# EAGLE library part 7SEG-CA (library jason-test)
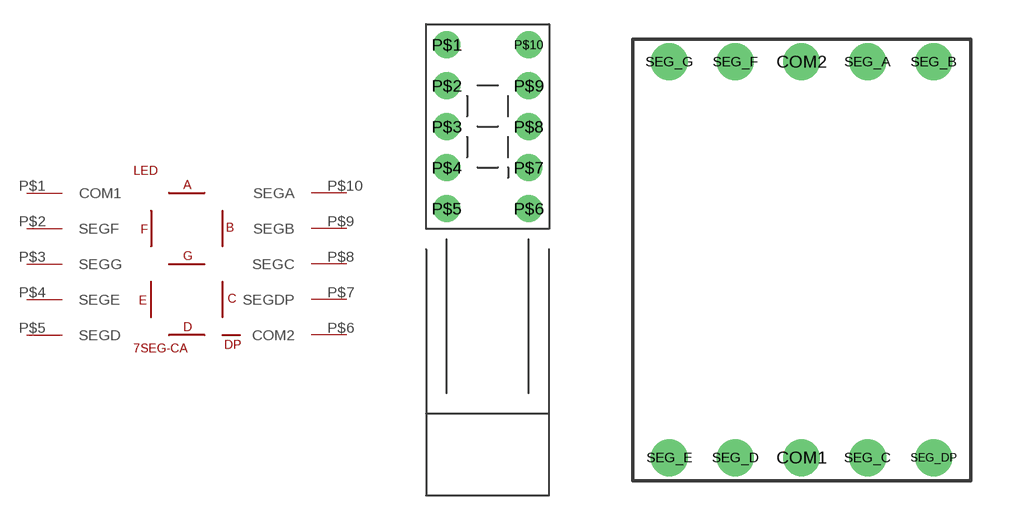
[diagram p17: symbol with the pads of 7SEG0.3IN; footprints 7SEG0.3IN, 7SEG-HSDP-5XXX]

Designator prefix LED

## 7SEG-CAR/A  [7SEG0.3IN]
P$1  COM1
P$2  SEGF
P$3  SEGG
P$4  SEGE
P$5  SEGD
P$6  COM2
P$7  SEGDP
P$8  SEGC
P$9  SEGB
P$10  SEGA

## 7SEG-CATH  [7SEG-HSDP-5XXX]
COM1  COM1
COM2  COM2
SEG_A  SEGA
SEG_B  SEGB
SEG_C  SEGC
SEG_D  SEGD
SEG_DP  SEGDP
SEG_E  SEGE
SEG_F  SEGF
SEG_G  SEGG

## 7SEG-CASMT-WRAP  [7SEG-HDSP-5XXX-SMT]
Pads as for 7SEG-HSDP-5XXX

## Footprint 7SEG0.3IN (pad centres in mm)
7-segment display, 0.3" wide
drill 0.9 pad 1.676 round: P$1 0,0; P$2 0,-2.54; P$3 0,-5.08; P$4 0,-7.62; P$5 0,-10.16; P$6 5.08,-10.16; P$7 5.08,-7.62; P$8 5.08,-5.08; P$9 5.08,-2.54; P$10 5.08,0

## Footprint 7SEG-HSDP-5XXX (pad centres in mm)
drill 0.8 pad 1.422 round: COM1 0,-7.62; COM2 0,7.62; SEG_A 2.54,7.62; SEG_B 5.08,7.62; SEG_C 2.54,-7.62; SEG_D -2.54,-7.62; SEG_DP 5.08,-7.62; SEG_E -5.08,-7.62; SEG_F -2.54,7.62; SEG_G -5.08,7.62

## Footprint 7SEG-HDSP-5XXX-SMT (pad centres in mm)
smd 1.27 x 2.54 bottom: COM1 0,-6.35; COM2 0,6.35; SEG_A 2.54,6.35; SEG_B 5.08,6.35; SEG_C 2.54,-6.35; SEG_D -2.54,-6.35; SEG_DP 5.08,-6.35; SEG_E -5.08,-6.35; SEG_F -2.54,6.35; SEG_G -5.08,6.35